# EAGLE library part MAX3074 (library HyTechDevices)
Maxim Integrated MAX3074EESA+ Datasheet <https://www.mouser.com/datasheet/2/609/MAX3070E_MAX3079E-3128184.pdf>
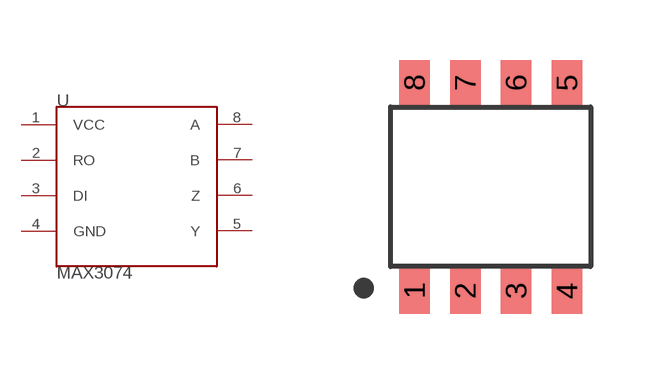
[diagram p68: symbol with the pads of SOIC-08(NARROW,0.15"); footprint SOIC-08(NARROW,0.15")]

Designator prefix U

## MAX3074 (DKPN: MAX3074EESA+-ND; MANUFACTURER: Maxim Integrated; MOPN: 700-MAX3074EESA; MPN: MAX3074EESA+)  [SOIC-08(NARROW,0.15")]
1  VCC  pas
2  RO  pas
3  DI  pas
4  GND  pas
5  Y  pas
6  Z  pas
7  B  pas
8  A  pas

## Footprint SOIC-08(NARROW,0.15") (pad centres in mm)
SOIC-8 Datasheet <https://www.analog.com/media/en/package-pcb-resources/package/pkg_pdf/ltc-legacy-soic/05081610_G_SO8.pdf>
smd 0.762 x 1.143: 1 -1.905,-2.603; 2 -0.635,-2.603; 3 0.635,-2.603; 4 1.905,-2.603; 5 1.905,2.603; 6 0.635,2.603; 7 -0.635,2.603; 8 -1.905,2.603